# Altium footprint library antennas.PcbLib: 12 footprints
Each footprint in its own frame and in the unit in brackets; x right, y up, seen from the top. Pads: shape width x height; smd on the part's side, far side on the other; paste and mask are expansions set on the pad; w line width, h text height; cw(c..) or ccw(c..) is an arc to the next point about the centre after c.
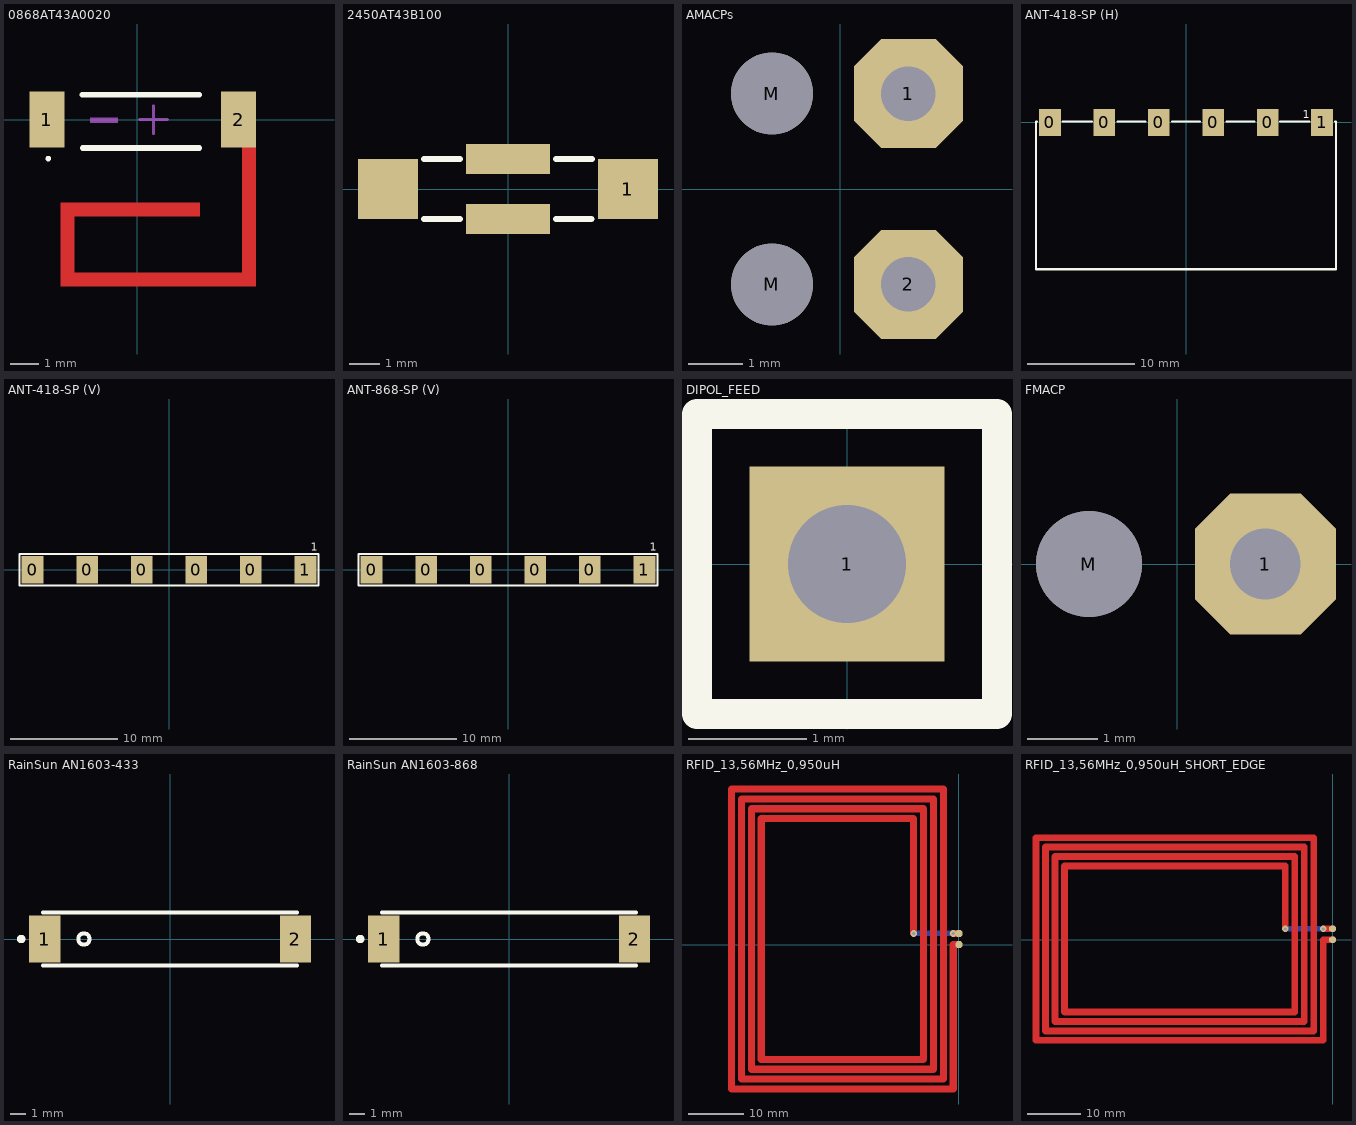
[diagram p0: the footprints below, top view; thin cyan lines are the x and y axes]

## 0868AT43A0020 [mm]
pads (2):
  rect 1.25x2 smd: 1(-3.237,0.004) 2(3.621,0.004)
Top Layer:
  rectangle: -2.252,-3.467 2.248,-2.967
  region: -2.752,-2.965 -2.752,-5.965 -2.252,-5.965 -2.252,-2.965
  rectangle: -2.252,-5.965 3.748,-5.465
  region: 4.248,-5.965 4.248,-0.965 3.748,-0.965 3.748,-5.965
Top Overlay:
  circle w0.1: c-3.187,-1.393 r0.05
  lines w0.2: -1.967,0.893 0.319,0.893 2.219,0.893 ; -1.962,-1.012 -0.062,-1.012 2.219,-1.012
Mechanical 13:
  region: -0.697,0.077 -1.697,0.077 -1.697,-0.123 -0.697,-0.123
Mechanical 15:
  lines w0.1: 0.073,0.004 1.073,0.004 ; 0.573,-0.504 0.573,0.496
3D body: height 0.8, standoff 0, extent -3.387,-1 3.638,1

## 2450AT43B100 [mm] "BT 2.4GHz Antenna"
height 2
pads (4):
  rect 2x2 smd: 1(4,0) ""(-4,0)
  rect 2.8x1 smd: ""(0,-1) ""(0,1)
Top Overlay:
  lines w0.2: -2.8,-1 -1.6,-1 ; -2.8,1 -1.6,1 ; 1.6,-1 2.775,-1 ; 1.6,1 2.8,1
3D body: height 2, standoff 0, extent -3.5,-1 3.5,1

## AMACPs [mm] "AM Antenna Cable Pads"
pads (4):
  oct 2x2 hole 1: 1(1.25,1.75) 2(1.25,-1.75)
  round 1.5 hole 1.5: M(-1.25,-1.75) M(-1.25,1.75)

## ANT-418-SP (H) [mil] "418MHz (7MHz), 50Ohm, \"Splatch\" Grounded-Line Planar Antenna"
height 539.37
pads (6):
  rect 80x100 smd: 0(-500,0) 0(-300,0) 0(-100,0) 0(100,0) 0(300,0) 1(500,0)
Top Overlay:
  lines w7.87: -547.24,3.94 -551.18,3.94 -551.18,-539.37 551.18,-539.37 551.18,3.94 547.24,3.94 ; -452.76,3.94 -346.46,3.94 ; -251.97,3.94 -149.61,3.94 ; -51.18,3.94 51.18,3.94 ; 149.61,3.94 251.97,3.94 ; 346.46,3.94 452.76,3.94
  text "1" at 429.13,15.75 h30
3D body: height 62.99, standoff -0.39, extent -550,-538.39 550,0.98

## ANT-418-SP (V) [mil] "418MHz (7MHz), 50Ohm, \"Splatch\" Grounded-Line Planar Antenna"
height 539.37
pads (6):
  rect 80x100 smd: 0(-500,0) 0(-300,0) 0(-100,0) 0(100,0) 0(300,0) 1(500,0)
Top Overlay:
  lines w7.87: -548.23,-58.07 548.23,-58.07 548.23,58.07 -548.23,58.07 -548.23,-58.07
  text "1" at 519,69.7 h30
3D body: height 539.37, standoff 0, extent -550,-29.92 550,33.46

## ANT-868-SP (V) [mil] "868MHz (35MHz), 50Ohm, \"Splatch\" Grounded-Line Planar Antenna"
height 539.37
pads (6):
  rect 80x100 smd: 0(-500,0) 0(-300,0) 0(-100,0) 0(100,0) 0(300,0) 1(500,0)
Top Overlay:
  lines w7.87: -548.23,-58.07 -548.23,57.87 548.23,57.87 548.23,-58.07 -548.23,-58.07
  text "1" at 519,69.7 h30
3D body: height 551.18, standoff 0, extent -551.18,-31.5 550.02,39.37

## DIPOL_FEED [mil]
pads (1):
  rect 65x65 hole 39.37: 1(0,0)
Top Overlay:
  lines w10: -50,-50 50,-50 50,50 -50,50 -50,-19.68 -50,-50

## FMACP [mm] "FM Antenna Cable Pad"
pads (2):
  oct 2x2 hole 1: 1(1.25,0)
  round 1.5 hole 1.5: M(-1.25,0)

## RainSun AN1603-433 [mm] "Multilayer Chip Antenna for 433MHz Wireless Communication"
height 1.65
pads (2):
  rect 2x3 smd: 1(-8,0) 2(8,0)
Top Overlay:
  circle w0.254: c-9.5,0 r0.141
  circle w0.254: c-5.5,0 r0.361
  lines w0.254: -8.1,-1.7 8.1,-1.7 ; -8.1,1.7 -8,1.7 8.1,1.7
3D body: height 1.65, standoff 0, extent -7.125,-1.55 7.125,1.55
3D body: height 1.65, standoff 0, extent -8,-1.55 -7.125,1.55
3D body: height 1.65, standoff 0, extent 7.125,-1.55 8,1.55

## RainSun AN1603-868 [mm] "Multilayer Chip Antenna for 868MHz Wireless Communication"
height 1.45
pads (2):
  rect 2x3 smd: 1(-8,0) 2(8,0)
Top Overlay:
  circle w0.254: c-9.5,0 r0.141
  circle w0.254: c-5.5,0 r0.361
  lines w0.254: -8.1,-1.7 8.1,-1.7 ; -8.1,1.7 -8,1.7 8.1,1.7
3D body: height 1.45, standoff 0, extent 7.125,-1.55 8,1.55
3D body: height 1.45, standoff 0, extent -8,-1.55 -7.125,1.55
3D body: height 1.45, standoff 0, extent -7.125,-1.55 7.125,1.55

## RFID_13,56MHz_0,950uH [mil] "13,56MHz RFID PCB Antenna (0,950uH)"
pads (2):
  oct 50x50 smd: 1(0,0) 2(0,80)
via -40,80 diameter 47.24 hole 23.62
via -320,80 diameter 47.24 hole 23.62
Top Layer:
  lines w50: -320,80 -320,893 -1400,893 -1400,-812 -250,-812 -250,963 -1470,963 -1470,-882 -180,-882 -180,1033 -1540,1033 -1540,-952 -110,-952 -110,1103 -1610,1103 -1610,-1022 -40,-1022 -40,-945 -40,0 0,0 ; -40,80 -5,80
Bottom Layer:
  rectangle: -320,60 -40,100

## RFID_13,56MHz_0,950uH_SHORT_EDGE [mil] "13,56MHz RFID PCB Antenna (0,950uH)"
pads (2):
  oct 50x50 smd: 1(0,0) 2(0,80)
via -70,80 diameter 47.24 hole 23.62
via -350,80 diameter 47.24 hole 23.62
Top Layer:
  lines w50: -350,80 -350,545 -1985,545 -1985,-535 -280,-535 -280,615 -2055,615 -2055,-605 -210,-605 -210,685 -2125,685 -2125,-675 -140,-675 -140,755 -2195,755 -2195,-745 -70,-745 -70,0 -4,0 ; -70,80 -4,80
Bottom Layer:
  rectangle: -350,60 -70,100